# Altium footprint library MIC_ELECTRET_CASTLE_PAD.PcbLib: 1 footprints
Each footprint in its own frame and in the unit in brackets; x right, y up, seen from the top. Pads: shape width x height; smd on the part's side, far side on the other; paste and mask are expansions set on the pad; w line width, h text height; cw(c..) or ccw(c..) is an arc to the next point about the centre after c.
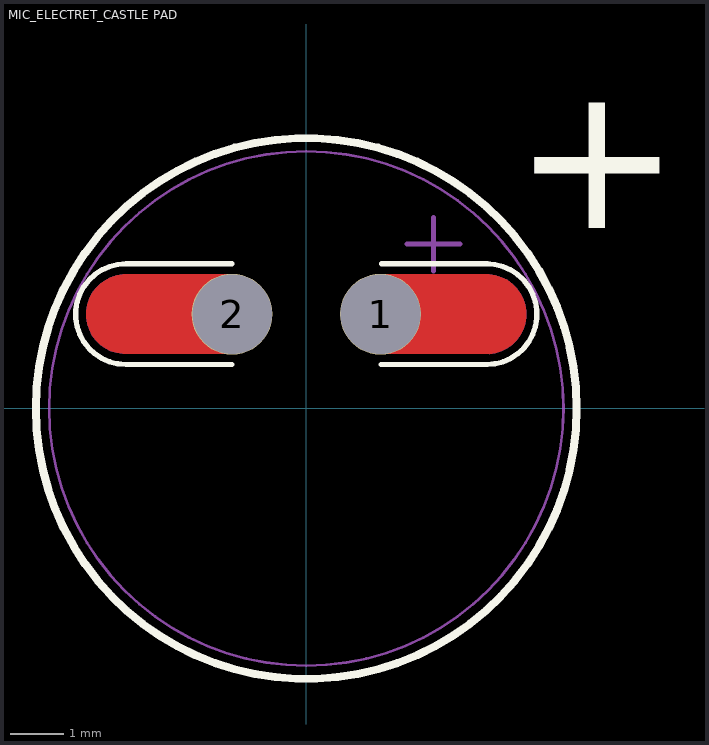
[diagram p0: the footprint, top view; thin cyan lines are the x and y axes]

## MIC_ELECTRET_CASTLE PAD [mm]
pads (2):
  round 1.525 hole 1.5: 1(1.4,1.778) 2(-1.4,1.778)
Top Layer:
  region: -3.4,1.028 -3.459,1.028 -3.576,1.046 -3.688,1.083 -3.793,1.137 -3.889,1.206 -3.972,1.289 -4.041,1.385 -4.095,1.49 -4.132,1.602 -4.15,1.719 -4.15,1.837 -4.132,1.954 -4.095,2.066 -4.041,2.171 -3.972,2.267 -3.889,2.35 -3.793,2.419 -3.688,2.473 -3.576,2.51 -3.459,2.528 -3.4,2.528 -1.4,2.528 -1.4,1.028
  region: 1.4,1.028 3.388,1.028 3.448,1.027 3.566,1.044 3.68,1.079 3.786,1.132 3.884,1.202 3.969,1.285 4.039,1.381 4.094,1.487 4.131,1.601 4.15,1.718 4.15,1.838 4.131,1.955 4.094,2.069 4.039,2.175 3.969,2.271 3.884,2.354 3.786,2.424 3.68,2.477 3.566,2.512 3.448,2.529 3.388,2.528 1.4,2.528
Bottom Layer:
  region: -3.4,1.028 -3.459,1.028 -3.576,1.046 -3.688,1.083 -3.793,1.137 -3.889,1.206 -3.972,1.289 -4.041,1.385 -4.095,1.49 -4.132,1.602 -4.15,1.719 -4.15,1.837 -4.132,1.954 -4.095,2.066 -4.041,2.171 -3.972,2.267 -3.889,2.35 -3.793,2.419 -3.688,2.473 -3.576,2.51 -3.459,2.528 -3.4,2.528 -1.4,2.528 -1.4,1.028
  region: 1.4,1.028 3.388,1.028 3.448,1.027 3.566,1.044 3.68,1.079 3.786,1.132 3.884,1.202 3.969,1.285 4.039,1.381 4.094,1.487 4.131,1.601 4.15,1.718 4.15,1.838 4.131,1.955 4.094,2.069 4.039,2.175 3.969,2.271 3.884,2.354 3.786,2.424 3.68,2.477 3.566,2.512 3.448,2.529 3.388,2.528 1.4,2.528
Top Overlay:
  circle w0.15: c0,0 r5.1
  lines w0.1: -1.4,0.828 -3.4,0.828 cw(c-3.4,1.778) -3.4,2.728 -1.4,2.728 ; 1.412,0.828 3.412,0.828 ; 1.418,2.728 3.418,2.728 ; 3.4,0.828 ccw(c3.4,1.778) 3.4,2.728
  text "+" at 3.9,3.4 h3
Top Assembly:
  circle w0.05: c0,0 r4.85
  lines w0.1: 1.9,3.1 2.9,3.1 ; 2.4,2.6 2.4,3.6
  text ".designator" at -4.998,-0.333 h1
Top Courtyard:
  circle w0.05: c0,0 r5.1
3D body "AOM-5024L-HD-R--3DModel-STEP-1.STEP": height 5.01, standoff -0.05, extent -4.85,-4.85 4.85,4.85